# Altium integrated library beovox-poe.IntLib: 35 symbols (part 2 of 2)
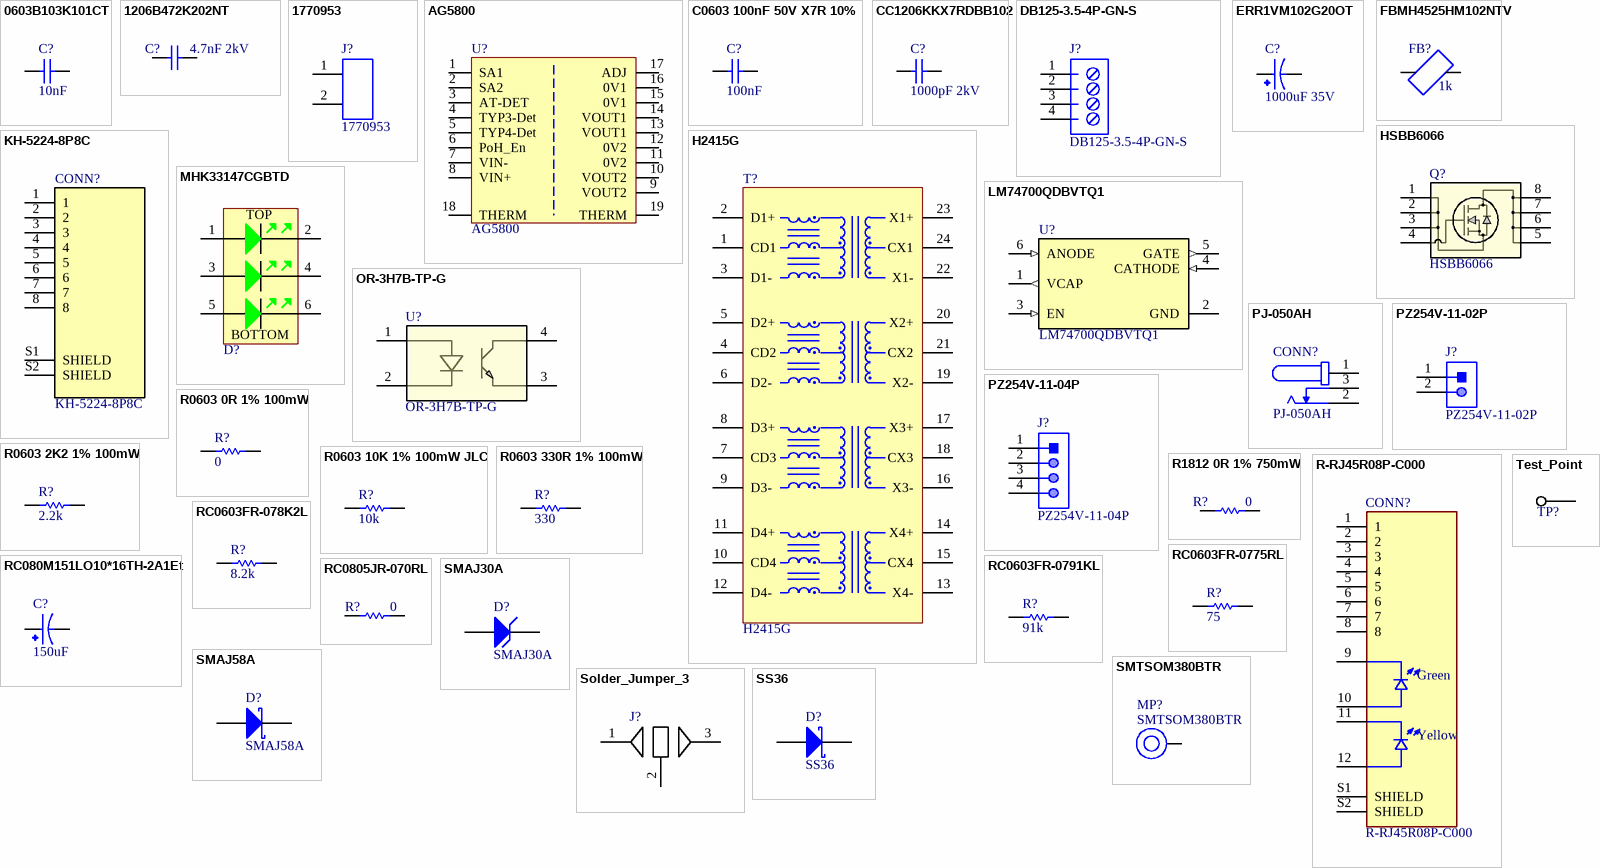
[diagram p1: symbols 0603B103K101CT to Test_Point]

## SMTSOM380BTR
designator MP?
M3 Round Nut 8mm height; Manufacturer: YIYUAN; Supplier: LCSC; Supplier Part Number: C5301772; ComponentLink1Description: LCSC; ComponentLink1URL: https://www.lcsc.com/product-detail/Other-nuts_YIYUAN-SMTSOM380BTR_C5301772.html; Manufacturer Part Number: SMTSOM380BTR
footprint SMTSOM380 (RND STANDOFF M3 8MM)
footprint SMTSOM380_PlatedScrew (RND STANDOFF M3 8MM / Plated pad for screw)
pins: 1

## Solder_Jumper_3
designator J?, comment JUMPER  (value not drawn)  (no BOM)
footprint SOLDER_JUMPER_3
footprint SOLDER_JUMPER_3 large
pins: 1, 2, 3

## SS36
designator D?
60V 700mV@3A 3A SMA(DO-214AC) Schottky Barrier Diodes (SBD) ROHS; Manufacturer: MDD; Value: 60V 3A; Supplier: LCSC; Supplier Part Number: C16015; Manufacturer Part Number: SS36; ComponentLink1Description: LCSC; ComponentLink1URL: https://www.lcsc.com/product-detail/Schottky-Barrier-Diodes-SBD_MDD-Microdiode-Electronics-SS36_C16015.html
footprint DIOD-SMA-2_V (Molded Diode, 2-Leads, Body 4.6x2.92mm)
pins: 1 A, 2 K

## Test_Point
designator TP?, comment TP  (value not drawn)  (no BOM)
footprint Test_Point
footprint Test_Point_1.5
pins: 1